# EAGLE library part 691221120008 (library Terminal_Blocks_Connectors_rev15e)
WR-TBL Serie 2211 - 3.5mm 45° Entry Modular with Rising Cage Clamp - 1.3 mm2 Wires, 8 Pins=>Code : Con_TBL_Screw_RisingClamp_3.50_691221120008 <http://katalog.we-online.de/media/images/eican/Con_TBL_Screw_RisingClamp_3.50_6912211200xx_pf2.jpg> Details see: http://katalog.we-online.de/en/em/691_221_120_0xx Created 2014-06-18, Karrer Zheng 2014 (C) Würth Elektronik
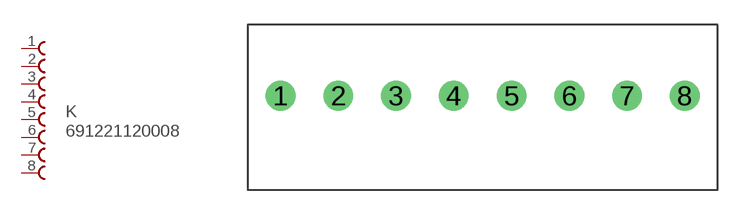
[diagram p7: symbol with the pads of 691221120008; footprint 691221120008]

Designator prefix K

## 691221120008  [691221120008]
1  1  pas
2  2  pas
3  3  pas
4  4  pas
5  5  pas
6  6  pas
7  7  pas
8  8  pas

## Footprint 691221120008 (pad centres in mm)
WR-TBL Serie 2211 - 3.5mm 45° Entry Modular with Rising Cage Clamp - 1.3 mm2 Wires, 8 Pins
drill 1.2: 1 -3.5,0; 2 0,0; 3 3.5,0; 4 7,0; 5 10.5,0; 6 14,0; 7 17.5,0; 8 21,0